# EAGLE library part CC2520 (library RFID)
2.4 GHZ IEEE 802.15.4/ZIGBEE® RF TRANSCEIVER Datasheet <http://www.ti.com/lit/ds/symlink/cc2520.pdf>
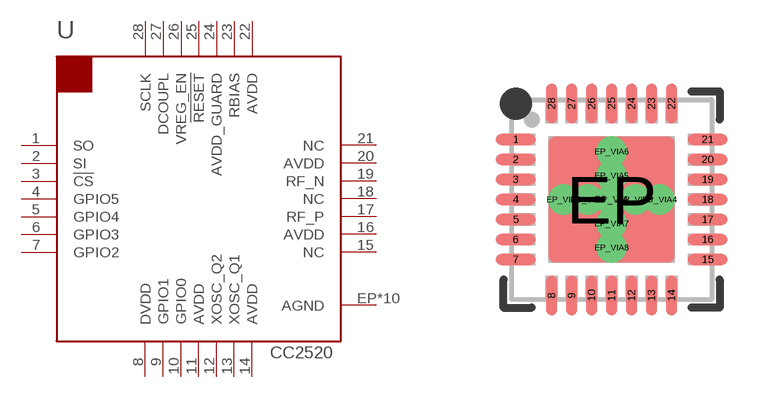
[diagram p5: symbol with the pads of S-PVQFN-N28; footprint S-PVQFN-N28]

Designator prefix U

## CC2520RHD (DATASHEET: https://goo.gl/skDBka; DESC: IC RF TXRX+MCU 802.15.4 28-VFQFN; MANF: Texas Instruments; MFPN: CC2520RHDT; PARTNO: 01-100506-00)  [S-PVQFN-N28]
1  SO  out
2  SI  in
3  !CS  in
4  GPIO5
5  GPIO4
6  GPIO3
7  GPIO2
8  DVDD  pwr
9  GPIO1
10  GPIO0
11  AVDD
12  XOSC_Q2
13  XOSC_Q1
14  AVDD  pwr
15  NC  nc
16  AVDD  pwr
17  RF_P
18  NC  nc
19  RF_N
20  AVDD  pwr
21  NC  nc
22  AVDD  pwr
23  RBIAS
24  AVDD_GUARD  pwr
25  !RESET  in
26  VREG_EN  in
27  DCOUPL  out
28  SCLK  in
EP  AGND  pwr
EP_VIA  AGND  pwr
EP_VIA1  AGND  pwr
EP_VIA2  AGND  pwr
EP_VIA3  AGND  pwr
EP_VIA4  AGND  pwr
EP_VIA5  AGND  pwr
EP_VIA6  AGND  pwr
EP_VIA7  AGND  pwr
EP_VIA8  AGND  pwr

## Footprint S-PVQFN-N28 (pad centres in mm)
Plastic Quad Flatpack No-Lead Changelog: 02/21/14: Created for CC2520 CN
smd 1 x 0.28: 1 -2.4,1.5; 2 -2.4,1; 3 -2.4,0.5; 4 -2.4,0; 5 -2.4,-0.5; 6 -2.4,-1; 7 -2.4,-1.5; 15 2.4,-1.5; 16 2.4,-1; 17 2.4,-0.5; 18 2.4,0; 19 2.4,0.5; 20 2.4,1; 21 2.4,1.5
smd 0.28 x 1: 8 -1.5,-2.4; 9 -1,-2.4; 10 -0.5,-2.4; 11 0,-2.4; 12 0.5,-2.4; 13 1,-2.4; 14 1.5,-2.4; 22 1.5,2.4; 23 1,2.4; 24 0.5,2.4; 25 0,2.4; 26 -0.5,2.4; 27 -1,2.4; 28 -1.5,2.4
smd 3.15 x 3.15: EP 0,0
drill 0.254 pad 0.406: EP_VIA 0,0; EP_VIA1 -1.2,0; EP_VIA2 -0.6,0; EP_VIA3 0.6,0; EP_VIA4 1.2,0; EP_VIA5 0,0.6; EP_VIA6 0,1.2; EP_VIA7 0,-0.6; EP_VIA8 0,-1.2